# EAGLE library part EH_B8B-EH (library CASE-JST)
JST EH Connector, through hole, 8 pin, top entry Description: JST EH connector with 2.5 mm pitch, through hole version, 8 pin, top entry. Links: Datasheet <http://www.jst-mfg.com/product/pdf/eng/eEH.pdf>
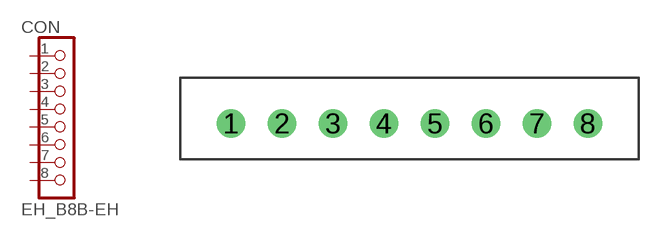
[diagram p12: symbol with the pads of B8B-EH; footprint B8B-EH]

Designator prefix CON

## EH_B8B-EH  [B8B-EH]
1  1  pas
2  2  pas
3  3  pas
4  4  pas
5  5  pas
6  6  pas
7  7  pas
8  8  pas

## Footprint B8B-EH (pad centres in mm)
JST B8B-EH Datasheet <http://www.jst-mfg.com/product/pdf/eng/eEH.pdf>
drill 0.9: 1 -8.75,0; 2 -6.25,0; 3 -3.75,0; 4 -1.25,0; 5 1.25,0; 6 3.75,0; 7 6.25,0; 8 8.75,0